# EAGLE library part SH7-5 (library con-rib)
RIBBON CABLE CONNECTOR
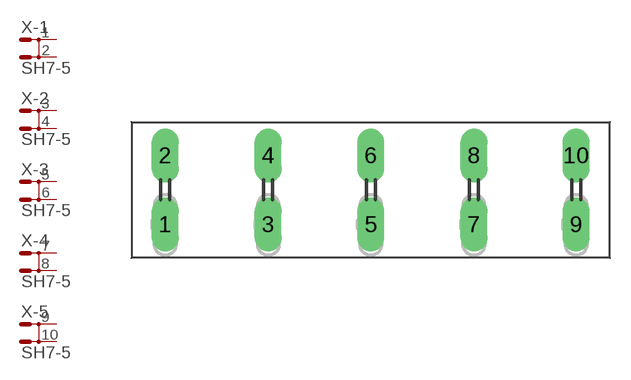
[diagram p8: symbol with the pads of SH7-5; footprint SH7-5]

Designator prefix X; gates -1=MD -2=MD -3=MD -4=MD -5=MD

## SH7-5  [SH7-5]
1  -1:1  pas
2  -1:2  pas
3  -2:1  pas
4  -2:2  pas
5  -3:1  pas
6  -3:2  pas
7  -4:1  pas
8  -4:2  pas
9  -5:1  pas
10  -5:2  pas

## Footprint SH7-5 (pad centres in mm)
RIBBON CABLE CONNECTOR
drill 1.321 long: 1 -15.011,-2.515; 2 -15.011,2.515; 3 -7.493,-2.515; 4 -7.493,2.515; 5 0,-2.515; 6 0,2.515; 7 7.518,-2.515; 8 7.518,2.515; 9 14.986,-2.515; 10 14.986,2.515